# Altium footprint library DPAK_N.PcbLib: 35 footprints (part 3 of 3)
Each footprint in its own frame and in the unit in brackets; x right, y up, seen from the top. Pads: shape width x height; smd on the part's side, far side on the other; paste and mask are expansions set on the pad; w line width, h text height; cw(c..) or ccw(c..) is an arc to the next point about the centre after c.
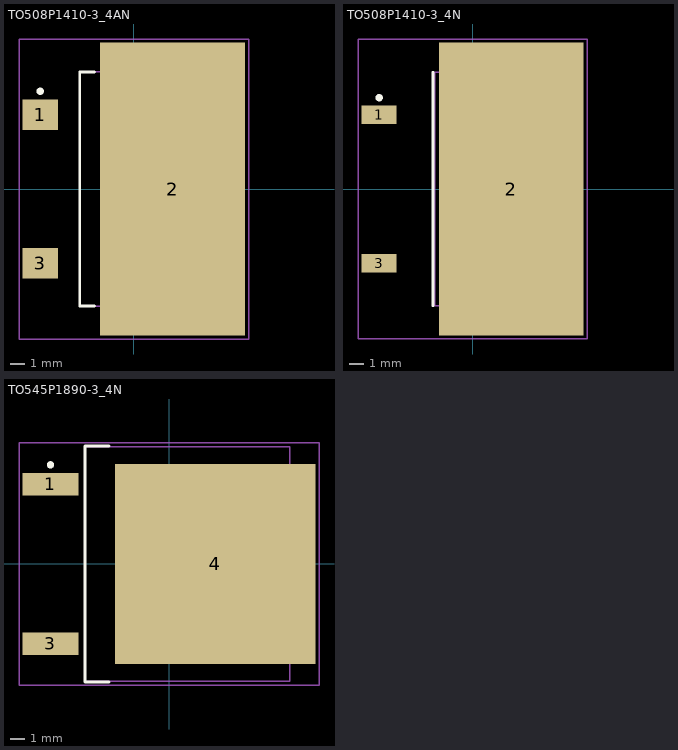
[diagram p2: the footprints below, top view; thin cyan lines are the x and y axes]

## TO508P1410-3_4AN [mm] "Single-Ended SM Package, 4-Leads, Body 10.6x16mm, Pitch 5.08mm, Lead Span 14.1mm, IPC Medium Density"
height 5.97
pads (3):
  rect 2.4x2.1 smd: 1(-6.4,5.08) 3(-6.4,-5.08)
  rect 9.9x20 smd: 2(2.65,0)
Top Overlay:
  circle w0.25: c-6.4,6.68 r0.125
  lines w0.2: -2.7,-8 -3.7,-8 -3.7,8 -2.7,8
Mechanical 13:
  lines w0.1: -3.7,-8 -3.7,8 7.09,8 7.09,-8 -3.7,-8
Mechanical 15:
  lines w0.1: -0.5,0 0.5,0 ; 0,-0.5 0,0.5 ; -7.85,-10.25 -7.85,10.25 7.85,10.25 7.85,-10.25 -7.85,-10.25
3D body: height 5.97, standoff 0, extent -3.7,-8 7.09,8

## TO508P1410-3_4N [mm] "Single-Ended SM Package, 4-Leads, Body 9.5x16mm, Pitch 5.08mm, Lead Span 14.1mm, IPC Medium Density"
height 6
pads (3):
  rect 2.4x1.25 smd: 1(-6.4,5.08) 3(-6.4,-5.08)
  rect 9.9x20.1 smd: 2(2.65,0)
Top Overlay:
  circle w0.25: c-6.4,6.255 r0.125
  lines w0.2: -2.7,-8 -2.7,8
Mechanical 13:
  lines w0.1: -2.6,-8 -2.6,8 7.05,8 7.05,-8 -2.6,-8
Mechanical 15:
  lines w0.1: -0.5,0 0.5,0 ; 0,-0.5 0,0.5 ; -7.85,-10.25 -7.85,10.25 7.85,10.25 7.85,-10.25 -7.85,-10.25
3D body: height 6, standoff 0, extent -2.6,-8 7.05,8

## TO545P1890-3_4N [mm] "D3-PAK, 4-Leads, Body 13.9x16mm, Pitch 5.45mm, Lead Span 18.9mm, IPC Medium Density"
height 5.1
pads (3):
  rect 3.8x1.55 smd: 1(-8.1,5.45) 3(-8.1,-5.45)
  rect 13.7x13.7 smd: 4(3.15,0)
Top Overlay:
  circle w0.25: c-8.1,6.775 r0.125
  lines w0.2: -4.1,-8.05 -5.75,-8.05 -5.75,8.05 -4.1,8.05
Mechanical 13:
  lines w0.1: -5.75,-8.025 8.25,-8.025 8.25,8.025 -5.75,8.025 -5.75,-8.025
Mechanical 15:
  lines w0.1: -0.5,0 0.5,0 ; 0,-0.5 0,0.5 ; -10.25,-8.3 10.25,-8.3 10.25,8.3 -10.25,8.3 -10.25,-8.3
3D body: height 5.1, standoff 0, extent -5.75,-8.025 8.25,8.025